# EAGLE library part 1926155-2_SOCK (library LTM4607)
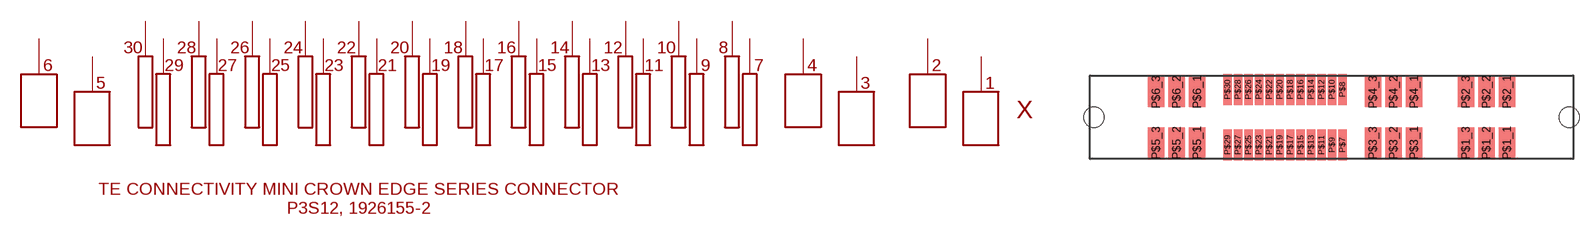
[diagram p2: symbol with the pads of 1926155-2_SOCK; footprint 1926155-2_SOCK]

Designator prefix X

## 1926155-2_SOCK  [1926155-2_SOCK]
P$1_1  P$1
P$1_2  P$1
P$1_3  P$1
P$2_1  P$2
P$2_2  P$2
P$2_3  P$2
P$3_1  P$3
P$3_2  P$3
P$3_3  P$3
P$4_1  P$4
P$4_2  P$4
P$4_3  P$4
P$5_1  P$5
P$5_2  P$5
P$5_3  P$5
P$6_1  P$6
P$6_2  P$6
P$6_3  P$6
P$7  P$7
P$8  P$8
P$9  P$9
P$10  P$10
P$11  P$11
P$12  P$12
P$13  P$13
P$14  P$14
P$15  P$15
P$16  P$16
P$17  P$17
P$18  P$18
P$19  P$19
P$20  P$20
P$21  P$21
P$22  P$22
P$23  P$23
P$24  P$24
P$25  P$25
P$26  P$26
P$27  P$27
P$28  P$28
P$29  P$29
P$30  P$30

## Footprint 1926155-2_SOCK (pad centres in mm)
smd 2 x 3.75: P$1_1 50.22,-3.1; P$1_2 47.72,-3.1; P$1_3 45.22,-3.1; P$2_1 50.22,3.1; P$2_2 47.72,3.1; P$2_3 45.22,3.1; P$3_1 38.92,-3.1; P$3_2 36.42,-3.1; P$3_3 33.92,-3.1; P$4_1 38.92,3.1; P$4_2 36.42,3.1; P$4_3 33.92,3.1; P$5_1 12.55,-3.1; P$5_2 10.05,-3.1; P$5_3 7.55,-3.1; P$6_1 12.55,3.1; P$6_2 10.05,3.1; P$6_3 7.55,3.1
smd 1.02 x 3.75: P$7 30.22,-3.375; P$8 30.22,3.375; P$9 28.95,-3.375; P$10 28.95,3.375; P$11 27.68,-3.375; P$12 27.68,3.375; P$13 26.41,-3.375; P$14 26.41,3.375; P$15 25.14,-3.375; P$16 25.14,3.375; P$17 23.87,-3.375; P$18 23.87,3.375; P$19 22.6,-3.375; P$20 22.6,3.375; P$21 21.33,-3.375; P$22 21.33,3.375; P$23 20.06,-3.375; P$24 20.06,3.375; P$25 18.79,-3.375; P$26 18.79,3.375; P$27 17.52,-3.375; P$28 17.52,3.375; P$29 16.25,-3.375; P$30 16.25,3.375
hole 2.44 at 57.77,0
hole 2.44 at 0,0